# Altium footprint library vi_measurement.PcbLib: 64 footprints (part 1 of 4)
Each footprint in its own frame and in the unit in brackets; x right, y up, seen from the top. Pads: shape width x height; smd on the part's side, far side on the other; paste and mask are expansions set on the pad; w line width, h text height; cw(c..) or ccw(c..) is an arc to the next point about the centre after c.
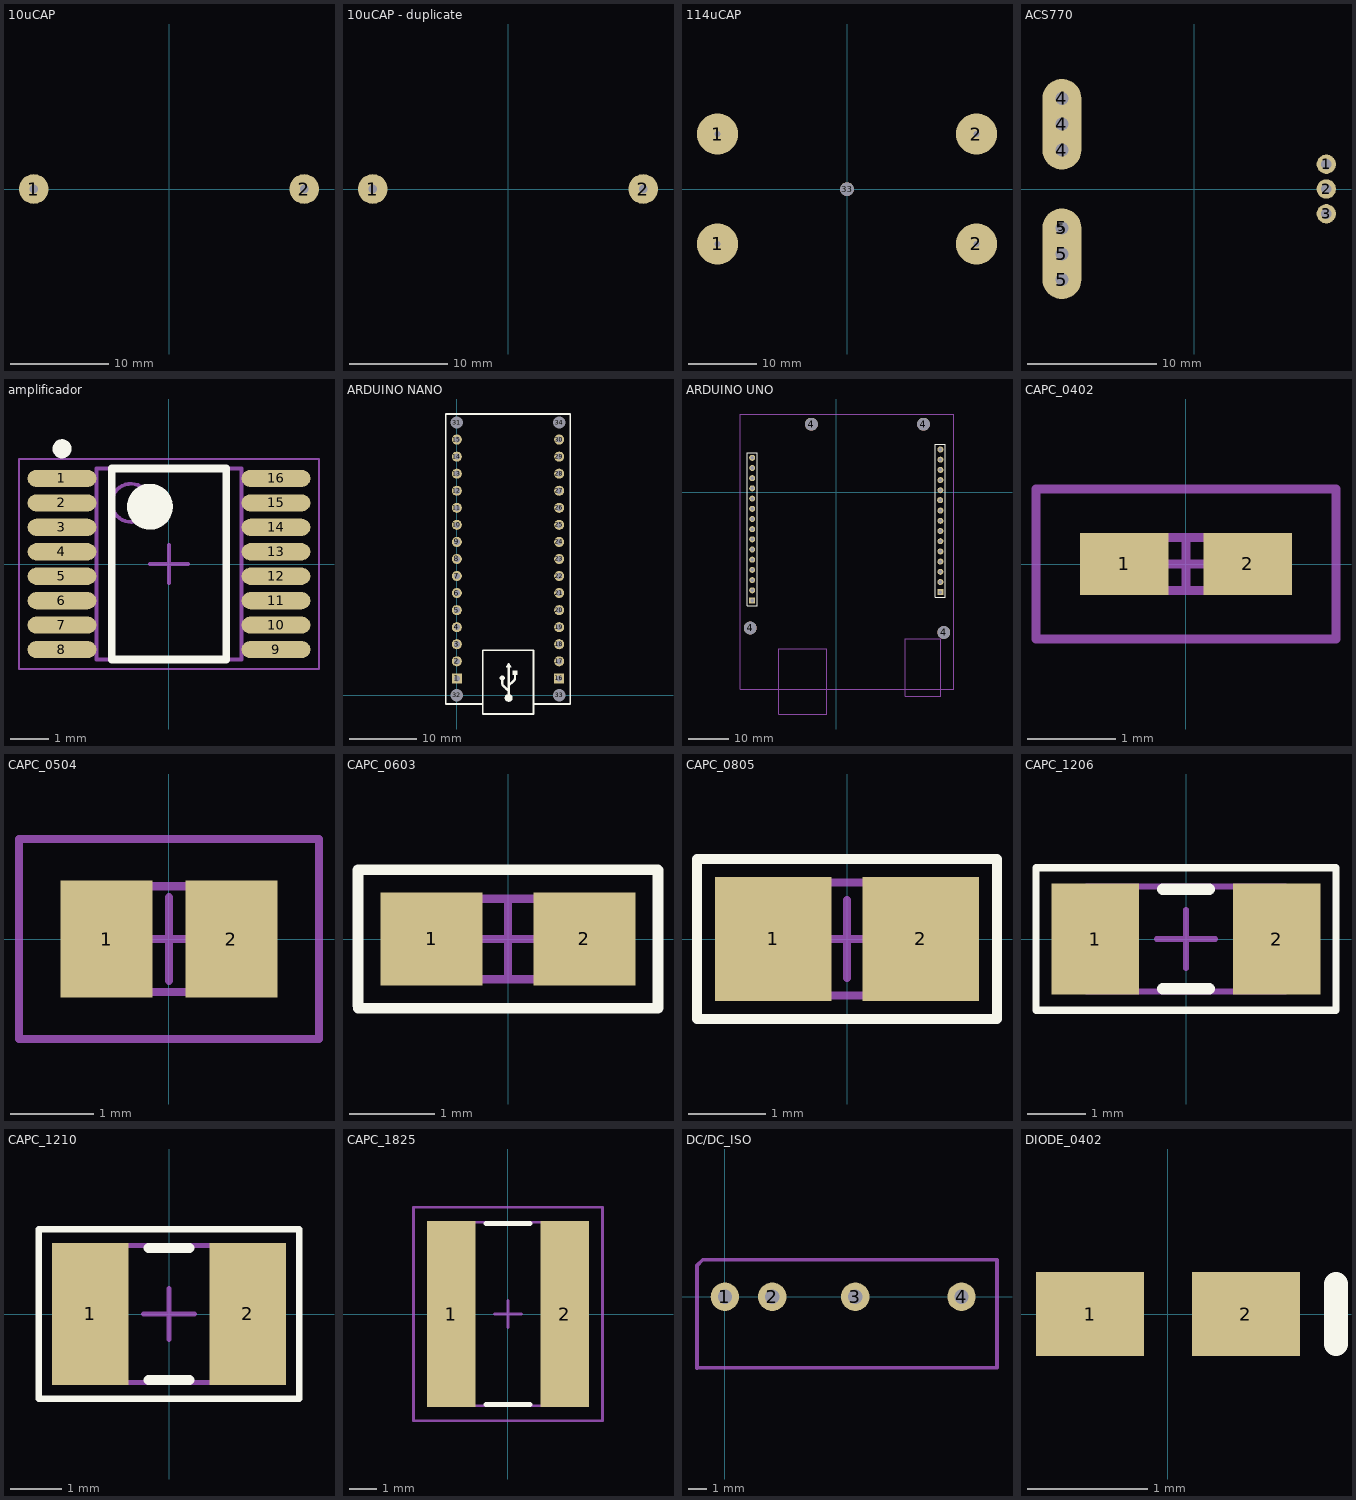
[diagram p0: the footprints below, top view; thin cyan lines are the x and y axes]

## 10uCAP [mm] "10uCAP"
height 1.35
pads (2):
  round 3 hole 0.9: 1(-13.75,0) 2(13.75,0)

## 10uCAP - duplicate [mm] "10uCAP"
height 1.35
pads (2):
  round 3 hole 0.9: 1(-13.75,0) 2(13.75,0)
3D body: height 32, standoff 2, extent -16.078,-10.592 16.205,10.795

## 114uCAP [mm] "10uCAP"
height 1.35
pads (5):
  round 6 hole 0.9: 1(-18.85,-8) 1(-18.85,8) 2(18.85,-8) 2(18.85,8)
  round 2 hole 2: 33(0,-0.025)
3D body: height 96, standoff 1, extent -24.721,-23.577 25.279,26.423

## ACS770 [mm] "Connector; Header; 3 Position"
pads (10):
  round 1.5 hole 0.8: 1(10.2,1.91) 2(10.2,0) 3(10.2,-1.91)
  round 3 hole 1: 4(-10.2,3) 4(-10.2,7) 5(-10.2,-7) 5(-10.2,-3)
  rect 3x4 hole 1 square: 4(-10.2,5) 5(-10.2,-5)
  round 1 hole 1: 5(-10.2,-3)
3D body "User Library-ACS758.STEP": height 5.1, standoff -5.52, extent -11.636,-7.127 11.118,6.873

## amplificador [mm] "SOP, 16-Leads, Body 4,90x3,91mm, Pitch 0,64mm, IPC Medium Density"
height 2.65
pads (16):
  oval 1.8x0.45 smd: 1(-2.8,2.24) 2(-2.8,1.6) 3(-2.8,0.96) 4(-2.8,0.32) 5(-2.8,-0.32) 6(-2.8,-0.96) 7(-2.8,-1.6) 8(-2.8,-2.24) 9(2.8,-2.24) 10(2.8,-1.6) 11(2.8,-0.96) 12(2.8,-0.32) 13(2.8,0.32) 14(2.8,0.96) 15(2.8,1.6) 16(2.8,2.24)
Top Overlay:
  circle w0.6: c-0.5,1.5 r0.3
  circle w0.25: c-2.8,3.015 r0.125
  lines w0.2: -1.5,-2.5 1.5,-2.5 1.5,2.5 -1.5,2.5 -1.5,-2.5
Mechanical 13:
  circle w0.1: c-1,1.6 r0.5
  lines w0.1: -1.9,-2.5 1.9,-2.5 1.9,2.5 -1.9,2.5 -1.9,-2.5
Mechanical 15:
  lines w0.05: -3.925,-2.75 3.925,-2.75 3.925,2.75 -3.925,2.75 -3.925,-2.75
  lines w0.1: -0.5,0 0.5,0 ; 0,-0.5 0,0.5
3D body: height 2.65, standoff 0.1, extent -1.9,-2.5 1.9,2.5

## ARDUINO NANO [mm] "ARDUINO NANO"
height 2.54
pads (34):
  rect 1.5x1.5 hole 0.9: 1(0,2.54) 16(15.24,2.54)
  round 1.5 hole 0.9: 2(0,5.08) 3(0,7.62) 4(0,10.16) 5(0,12.7) 6(0,15.24) 7(0,17.78) 8(0,20.32) 9(0,22.86) 10(0,25.4) 11(0,27.94) 12(0,30.48) 13(0,33.02) 14(0,35.56) 15(0,38.1) 17(15.24,5.08) 18(15.24,7.62) 19(15.24,10.16) 20(15.24,12.7) 21(15.24,15.24) 22(15.24,17.78) 23(15.24,20.32) 24(15.24,22.86) 25(15.24,25.4) 26(15.24,27.94) 27(15.24,30.48) 28(15.24,33.02) 29(15.24,35.56) 30(15.24,38.1)
  round 1.524 hole 1.85: 31(0,40.64) 32(0,0) 33(15.24,0) 34(15.24,40.64)
Top Overlay:
  drawing of 356 lines, arcs and shapes, not listed

## ARDUINO UNO [mm]
pads (34):
  rect 1.5x1.5 hole 0.9: 1(26.014,-24.948) 16(-20.89,-27.023)
  round 1.5 hole 0.9: 2(26.014,-22.408) 3(26.014,-19.868) 4(26.014,-17.328) 5(26.014,-14.788) 6(26.014,-12.248) 7(26.014,-9.708) 8(26.014,-7.168) 9(26.014,-4.628) 10(25.957,-2.02) 11(26.014,0.452) 12(26.014,2.992) 13(26.014,5.532) 14(26.014,8.072) 15(26.014,10.612) 17(-20.89,-24.483) 18(-20.89,-21.943) 19(-20.89,-19.403) 20(-20.89,-16.863) 21(-20.89,-14.323) 22(-20.89,-11.783) 23(-20.89,-9.243) 24(-20.89,-6.703) 25(-20.89,-4.163) 26(-20.89,-1.623) 27(-20.89,0.917) 28(-20.89,3.457) 29(-20.89,5.997) 30(-20.89,8.537)
  round 3.2 hole 3.2 unplated: 4(-21.398,-33.881) 4(-6.158,16.919) 4(21.782,16.919) 4(26.862,-34.981)
Top Overlay:
  lines w0.2: -22.16,-28.293 -22.16,-26.388 -22.16,9.807 -19.62,9.807 -19.62,-28.293 -22.16,-28.293 ; 24.744,-26.218 27.284,-26.218 27.284,11.882 24.744,11.882 24.744,-24.313 24.744,-26.218
Mechanical 1:
  lines w0.127: -20.638,19.459 -23.938,19.459 ; 26.1,-50.921 17.2,-50.921 17.2,-36.621 26.1,-36.621 ; 26.102,-50.921 26.102,-36.621 ; 26.102,19.459 29.402,19.459 ; -23.938,19.459 -23.938,-49.121 29.402,-49.121 29.402,19.459 ; -23.938,19.459 29.402,19.459 ; -14.338,-55.321 -14.338,-39.021 -2.338,-39.021 -2.338,-55.321 -14.338,-55.321

## CAPC_0402 [mm] "Chip Capacitor, Body 1.0x0.5mm, IPC Low Density"
height 0.6
pads (2):
  rect 1x0.7 smd: 1(-0.7,0) 2(0.7,0)
Mechanical 13:
  lines w0.1: -0.55,-0.3 0.55,-0.3 0.55,0.3 -0.55,0.3 -0.55,-0.3
Mechanical 15:
  lines w0.1: -0.3,0 0.3,0 ; 0,-0.3 0,0.3 ; -1.7,-0.85 1.7,-0.85 1.7,0.85 -1.7,0.85 -1.7,-0.85
3D body: height 0.6, standoff 0, extent -0.55,-0.3 0.55,0.3

## CAPC_0504 [mm] "Chip Capacitor, Body 1.2x1.0mm, IPC Low Density"
height 1.02
pads (2):
  rect 1.1x1.4 smd: 1(-0.75,0) 2(0.75,0)
Mechanical 13:
  lines w0.1: -0.66,-0.635 0.66,-0.635 0.66,0.635 -0.66,0.635 -0.66,-0.635
Mechanical 15:
  lines w0.1: -0.5,0 0.5,0 ; 0,-0.5 0,0.5 ; -1.8,-1.2 1.8,-1.2 1.8,1.2 -1.8,1.2 -1.8,-1.2
3D body: height 1.02, standoff 0, extent -0.66,-0.635 0.66,0.635

## CAPC_0603 [mm] "Chip Capacitor, Body 1.6x0.8mm, IPC Low Density"
height 0.85
pads (2):
  rect 1.2x1.1 smd: 1(-0.9,0) 2(0.9,0)
Top Overlay:
  lines w0.127: -1.765,-0.779 -1.765,0.812 ; -1.763,0.815 1.763,0.815 ; -1.761,-0.815 1.762,-0.815 ; 1.765,-0.813 1.765,0.81
Mechanical 13:
  lines w0.1: -0.875,-0.475 0.875,-0.475 0.875,0.475 -0.875,0.475 -0.875,-0.475
Mechanical 15:
  lines w0.1: -0.475,0 0.475,0 ; 0,-0.475 0,0.475
3D body: height 0.85, standoff 0, extent -0.9,-0.472 0.85,0.478

## CAPC_0805 [mm] "Chip Capacitor, Body 2.0x1.3mm, IPC Low Density"
height 1.1
pads (2):
  rect 1.5x1.6 smd: 1(-0.95,0) 2(0.95,0)
Top Overlay:
  lines w0.127: -1.929,-1.029 -1.929,1.029 1.929,1.029 1.929,-1.029 -1.929,-1.029
Mechanical 13:
  lines w0.1: -1.1,-0.725 1.1,-0.725 1.1,0.725 -1.1,0.725 -1.1,-0.725
Mechanical 15:
  lines w0.1: -0.5,0 0.5,0 ; 0,-0.5 0,0.5
3D body: height 1.1, standoff 0, extent -1.1,-0.725 1.1,0.725

## CAPC_1206 [mm] "Chip Capacitor, Body 3.2x1.6mm, IPC Low Density"
height 1.35
pads (2):
  rect 1.5x1.9 smd: 1(-1.55,0) 2(1.55,0)
Top Overlay:
  lines w0.127: -2.565,-1.215 -2.565,1.215 2.565,1.215 2.565,-1.215 -2.565,-1.215
  lines w0.2: -0.4,-0.85 0.4,-0.85 ; -0.4,0.85 0.4,0.85
Mechanical 13:
  lines w0.1: -1.7,-0.9 1.7,-0.9 1.7,0.9 -1.7,0.9 -1.7,-0.9
Mechanical 15:
  lines w0.1: -0.5,0 0.5,0 ; 0,-0.5 0,0.5
3D body: height 1.35, standoff 0, extent -1.7,-0.9 1.7,0.9

## CAPC_1210 [mm] "Chip Capacitor, Body 3.2x2.5mm, IPC Low Density"
height 1.35
pads (2):
  rect 1.5x2.8 smd: 1(-1.55,0) 2(1.55,0)
Top Overlay:
  lines w0.127: -2.565,-1.665 2.565,-1.665 2.565,1.665 -2.565,1.665 -2.565,-1.665
  lines w0.2: -0.4,-1.3 0.4,-1.3 ; -0.4,1.3 0.4,1.3
Mechanical 13:
  lines w0.1: -1.7,-1.35 1.7,-1.35 1.7,1.35 -1.7,1.35 -1.7,-1.35
Mechanical 15:
  lines w0.1: -0.5,0 0.5,0 ; 0,-0.5 0,0.5
3D body: height 1.35, standoff 0, extent -1.7,-1.35 1.7,1.35

## CAPC_1825 [mm] "Chip Capacitor, Body 4.5x6.4mm, IPC Low Density"
height 1.1
pads (2):
  rect 1.8x6.9 smd: 1(-2.1,0) 2(2.1,0)
Top Overlay:
  lines w0.2: -0.8,-3.35 0.8,-3.35 ; -0.8,3.35 0.8,3.35
Mechanical 13:
  lines w0.1: -2.4,-3.4 -2.4,3.4 2.4,3.4 2.4,-3.4 -2.4,-3.4
Mechanical 15:
  lines w0.1: -0.5,0 0.5,0 ; 0,-0.5 0,0.5 ; -3.5,-3.95 -3.5,3.95 3.5,3.95 3.5,-3.95 -3.5,-3.95
3D body: height 1.1, standoff 0, extent -2.4,-3.4 2.4,3.4

## DC/DC_ISO [mil]
pads (4):
  round 60 hole 30: 1(0,0) 2(100,0) 3(275.59,0) 4(500,0)
Mechanical 13:
  lines w7.87: -59,-151 -58,-150 575,-150 575,78 -47,78 -59,66 -59,-151
3D body: height 314.96, standoff 39.37, extent -53.75,-149 572,80

## DIODE_0402 [mm] "Chip Diode; Body 1.0 x 0.5 mm (LxW typ)"
height 0.6
pads (2):
  rect 0.9x0.7 smd: 1(-0.65,0) 2(0.65,0)
Top Overlay:
  lines w0.2: 1.4,-0.25 1.4,0.25